# Altium schematic symbol library Additional.SchLib: 12 symbols
Pins are listed as number, name and electrical type; pins without a type are passive.

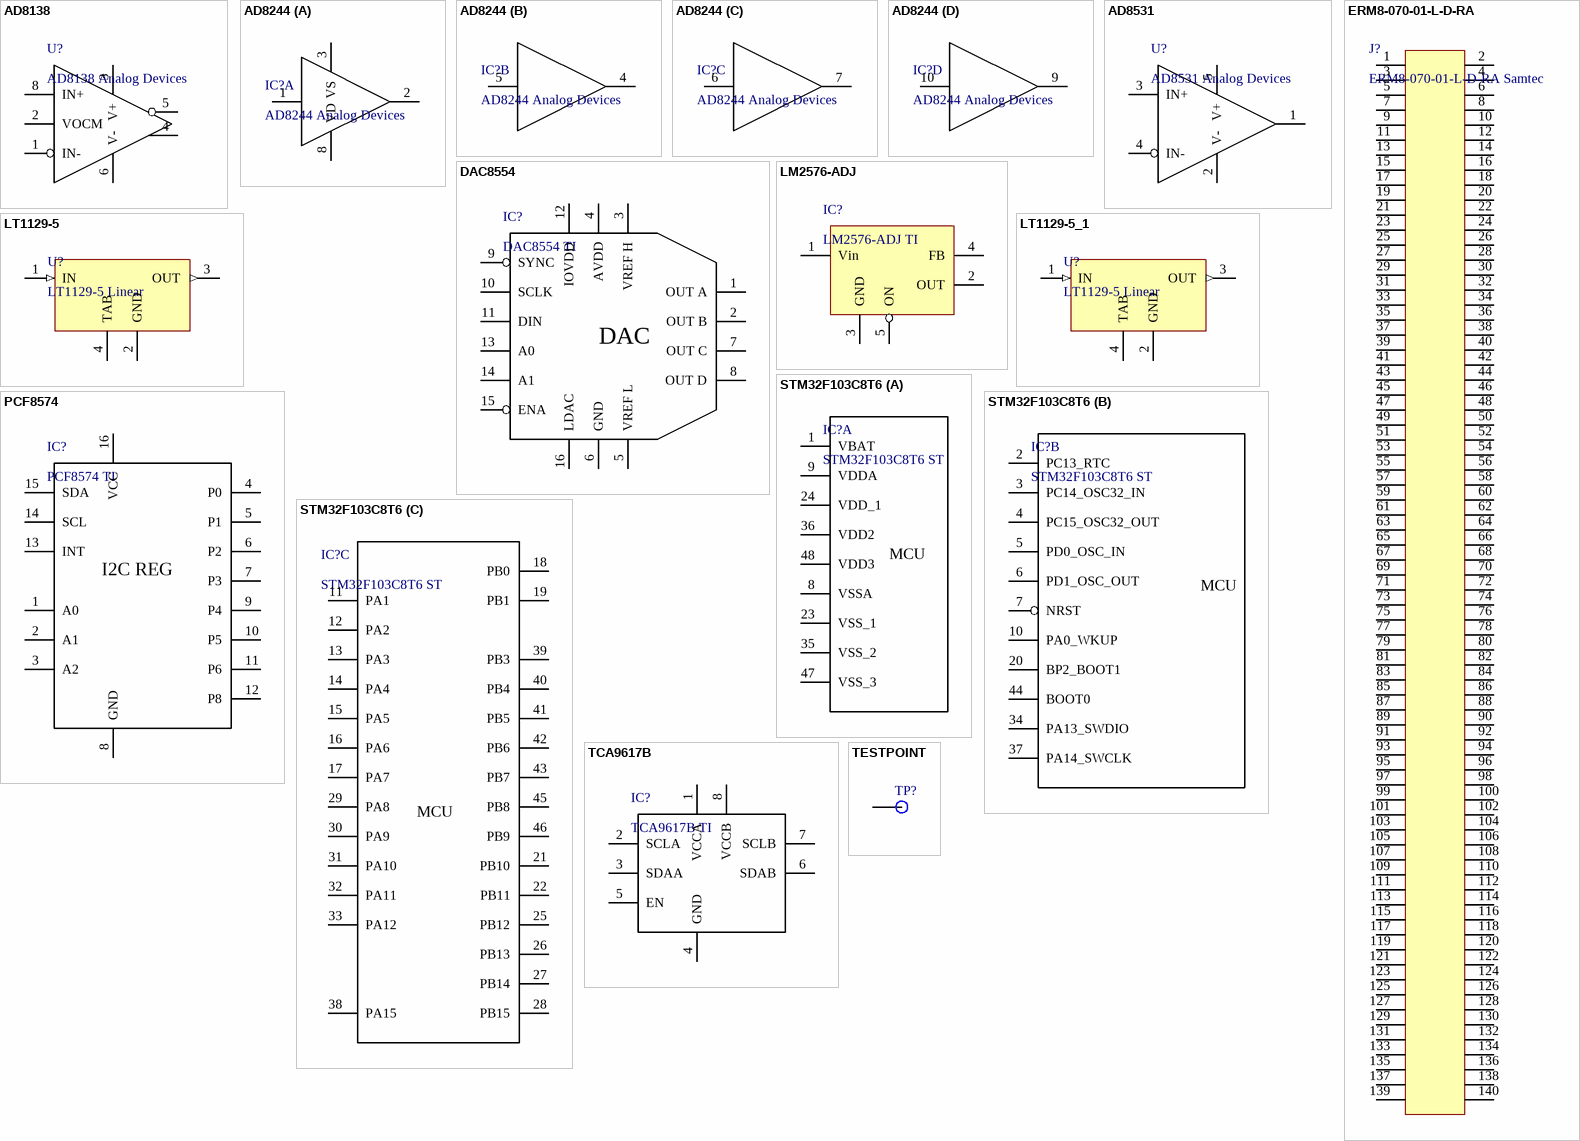
[diagram p0: symbols AD8138 to TESTPOINT]

## AD8138
designator U?, comment AD8138 Analog Devices
Manufacturer: Analog Devices; Name: AD8138
footprint SOIC127P600X175-8N (SOIC 8, Pitch 1.27mm - Body 4x5mm, IPC Medium Density)
pins: 1 IN-, 2 VOCM, 3 V+, 4 OUT+, 5 OUT-, 6 V-, 8 IN+

## AD8244
designator IC?, comment AD8244 Analog Devices
Name: AD8244; Manufacturer: Analog Devices
footprint TSSOP50P490X110-10N (TSSOP, 10-Leads, Body 3,00x3,00mm, Pitch 0,50mm, IPC Medium Density)
part A pins: 1 IN A, 2 OUT A, 3 VS, 8 VD
part B pins: 4 OUT B, 5 IN B
part C pins: 6 IN C, 7 OUT C
part D pins: 9 OUT D, 10 IN D

## AD8531
designator U?, comment AD8531 Analog Devices
Manufacturer: Analog Devices; Name: AD8531
footprint SOT95P285X145-5N (SOT23, 5-Leads, Body 3.00x2.85mm, Pitch 0.95mm, IPC Medium Density)
pins: 1 OUT+, 2 V-, 3 IN+, 4 IN-, 5 V+

## DAC8554
designator IC?, comment DAC8554 TI
Name: DAC8554; Manufacturer: TI
footprint TSOP65P640X120-16N (TSOP, 16-Leads, Body 5,00x4,40mm, Pitch 0,65mm, IPC Medium Density)
pins: 1 OUT A, 2 OUT B, 3 VREF H, 4 AVDD, 5 VREF L, 6 GND, 7 OUT C, 8 OUT D, 9 SYNC, 10 SCLK, 11 DIN, 12 IOVDD, 13 A0, 14 A1, 15 ENA, 16 LDAC
text: DAC

## ERM8-070-01-L-D-RA
designator J?, comment ERM8-070-01-L-D-RA Samtec
Name: ERM8-070-01-L-D-RA; Manufacturer: Samtec
footprint ERM8-070-01-L-D-RA
pins: 1, 2, 3, 4, 5, 6, 7, 8, 9, 10, 11, 12, 13, 14, 15, 16, 17, 18, 19, 20, 21, 22, 23, 24, 25, 26, 27, 28, 29, 30, 31, 32, 33, 34, 35, 36, 37, 38, 39, 40, 41, 42, 43, 44, 45, 46, 47, 48, 49, 50, 51, 52, 53, 54, 55, 56, 57, 58, 59, 60, 61, 62, 63, 64, 65, 66, 67, 68, 69, 70, 71, 72, 73, 74, 75, 76, 77, 78, 79, 80, 81, 82, 83, 84, 85, 86, 87, 88, 89, 90, 91, 92, 93, 94, 95, 96, 97, 98, 99, 100, 101, 102, 103, 104, 105, 106, 107, 108, 109, 110, 111, 112, 113, 114, 115, 116, 117, 118, 119, 120, 121, 122, 123, 124, 125, 126, 127, 128, 129, 130, 131, 132, 133, 134, 135, 136, 137, 138, 139, 140

## LM2576-ADJ
designator IC?, comment LM2576-ADJ TI
Name: LM2576-ADJ; Manufacturer: TI
footprint DPAK170P1435X465-6N (D2-PAK, 6-Pads, Body 7,55x8,57mm (max), IPC Medium Density)
pins: 1 Vin, 2 OUT, 3 GND, 4 FB, 5 ON, 6 GND hidden

## LT1129-5
designator U?, comment LT1129-5 Linear
Name: LT1129-5; Manufacturer: Linear
footprint SOT230P700X175-4N (SOT223, 2.30mm pitch; 4 pin, 3.70mm W X 6.70mm L, IPC Medium Density)
pins: 1 IN (in), 2 GND (power), 3 OUT (out), 4 TAB (power)

## LT1129-5_1
designator U?, comment LT1129-5 Linear
Name: LT1129-5; Manufacturer: Linear
footprint SOT230P700X175-4N (SOT223, 2.30mm pitch; 4 pin, 3.70mm W X 6.70mm L, IPC Medium Density)
pins: 1 IN (in), 2 GND (power), 3 OUT (out), 4 TAB (power)

## PCF8574
designator IC?, comment PCF8574 TI
Name: PCF8574; Manufacturer: TI
footprint SOIC127P1030X265-16N (SOIC, 16-Leads, Body 10,30x7,50mm, Pitch 1,27mm, IPC Medium Density)
pins: 1 A0, 2 A1, 3 A2, 4 P0, 5 P1, 6 P2, 7 P3, 8 GND, 9 P4, 10 P5, 11 P6, 12 P8, 13 INT, 14 SCL, 15 SDA, 16 VCC
text: I2C REG

## STM32F103C8T6
designator IC?, comment STM32F103C8T6 ST
Name: STM32F103C8T6; Manufacturer: ST
footprint QFP50P900X900X160-48N (QFP, 0.50mm pitch, square, 12 pin X 12 pin, 7.00mm X 7.00mm X 1.60mm Body, IPC Medium Density)
part A pins: 1 VBAT, 8 VSSA, 9 VDDA, 23 VSS_1, 24 VDD_1, 35 VSS_2, 36 VDD2, 47 VSS_3, 48 VDD3
part B pins: 2 PC13_RTC, 3 PC14_OSC32_IN, 4 PC15_OSC32_OUT, 5 PD0_OSC_IN, 6 PD1_OSC_OUT, 7 NRST, 10 PA0_WKUP, 20 BP2_BOOT1, 34 PA13_SWDIO, 37 PA14_SWCLK, 44 BOOT0
part C pins: 11 PA1, 12 PA2, 13 PA3, 14 PA4, 15 PA5, 16 PA6, 17 PA7, 18 PB0, 19 PB1, 21 PB10, 22 PB11, 25 PB12, 26 PB13, 27 PB14, 28 PB15, 29 PA8, 30 PA9, 31 PA10, 32 PA11, 33 PA12, 38 PA15, 39 PB3, 40 PB4, 41 PB5, 42 PB6, 43 PB7, 45 PB8, 46 PB9
part A text: MCU
part B text: MCU
part C text: MCU

## TCA9617B
designator IC?, comment TCA9617B TI
Name: TCA9617B; Manufacturer: TI
footprint TSOP65P490X110-8N (TSOP, 8-Leads, Body 3,00x3,00mm, Pitch 0,65mm, IPC Medium Density)
pins: 1 VCCA, 2 SCLA, 3 SDAA, 4 GND, 5 EN, 6 SDAB, 7 SCLB, 8 VCCB

## TESTPOINT
designator TP?
pins: 1